# Altium footprint library 3dprinter_shield.PcbLib: 18 footprints (part 1 of 2)
Each footprint in its own frame and in the unit in brackets; x right, y up, seen from the top. Pads: shape width x height; smd on the part's side, far side on the other; paste and mask are expansions set on the pad; w line width, h text height; cw(c..) or ccw(c..) is an arc to the next point about the centre after c.
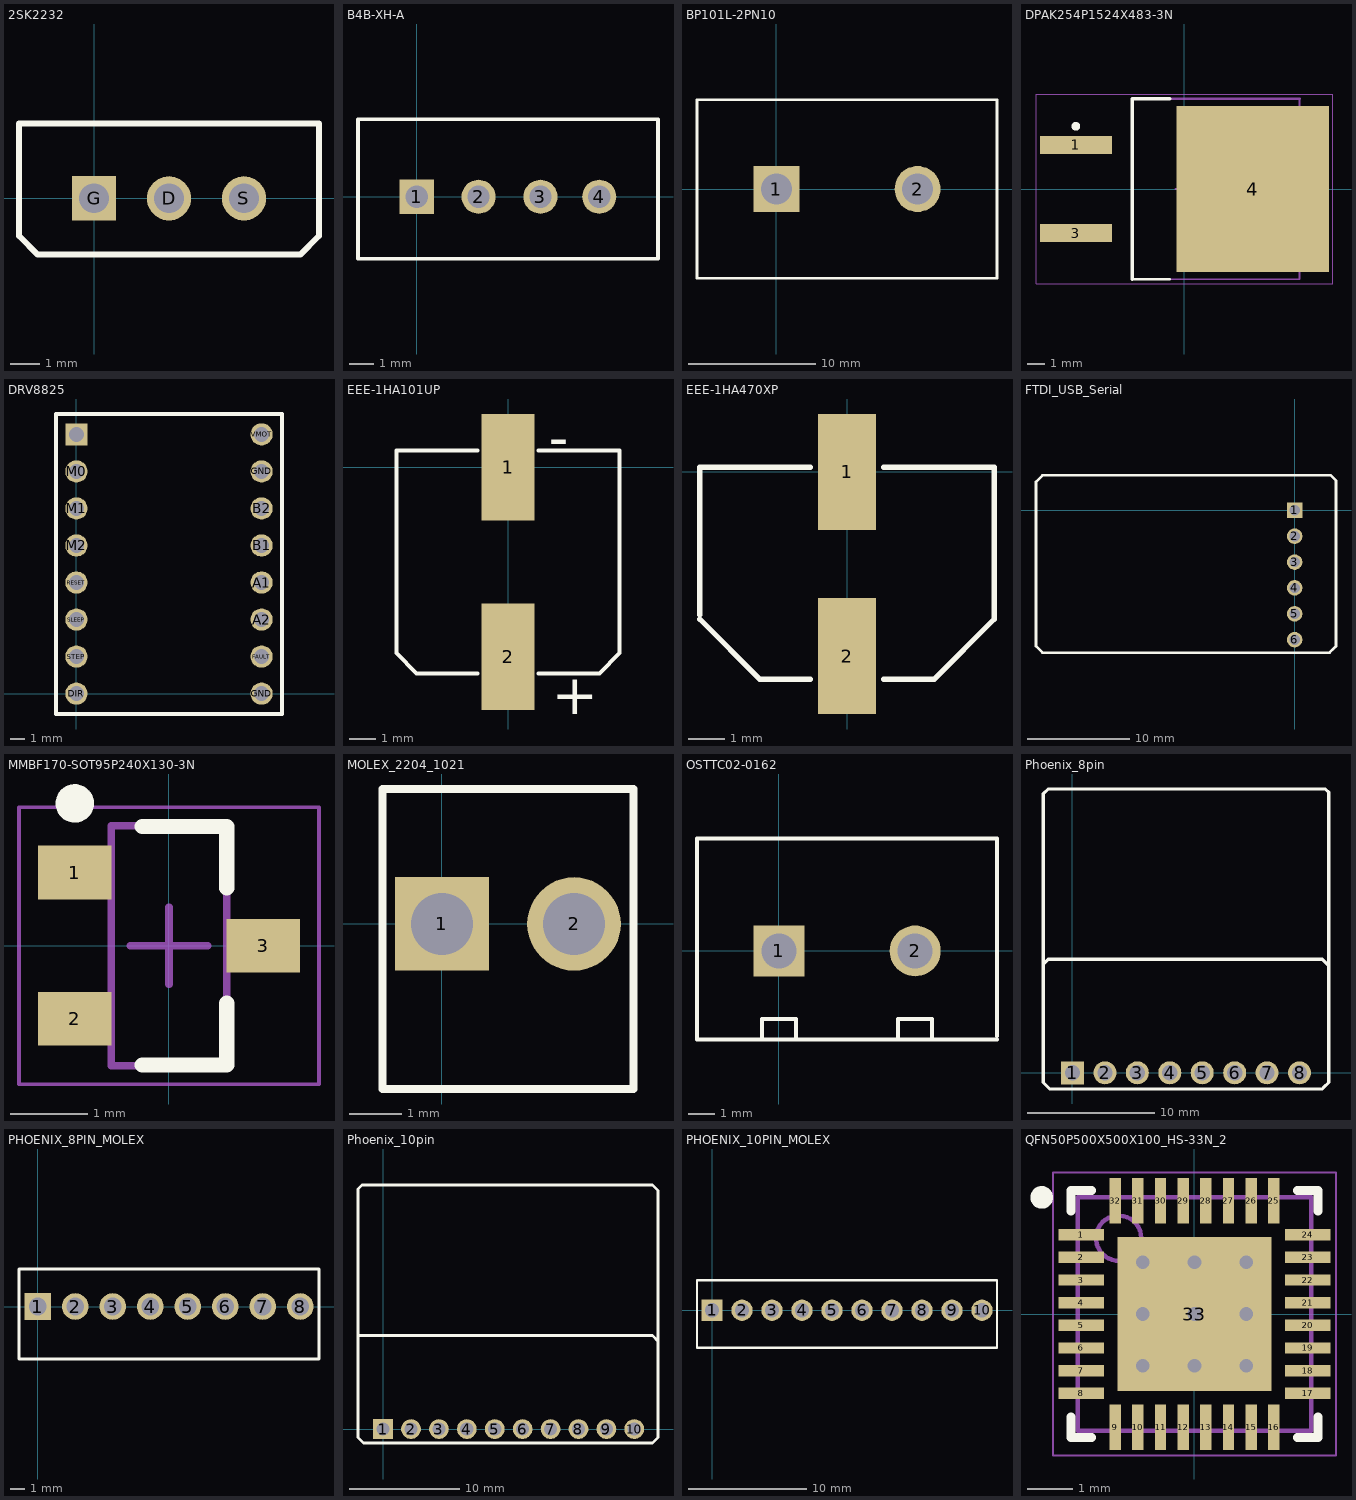
[diagram p0: the footprints below, top view; thin cyan lines are the x and y axes]

## 2SK2232 [mm]
pads (3):
  round 1.5 hole 1: D(2.54,0) S(5.08,0)
  rect 1.5x1.5 hole 1: G(0,0)
Top Overlay:
  lines w0.2: -2.54,-1.27 -2.54,2.54 7.62,2.54 7.62,-1.27 6.985,-1.905 -1.905,-1.905 -2.54,-1.27

## B4B-XH-A [mm]
pads (4):
  rect 1.4x1.4 hole 0.905: 1(0,0)
  round 1.4 hole 0.905: 2(2.54,0) 3(5.08,0) 4(7.493,0)
Top Overlay:
  lines w0.15: -2.413,-2.54 9.906,-2.54 9.906,0 9.906,3.175 -2.413,3.175 -2.413,0 -2.413,-2.54

## BP101L-2PN10 [mm]
pads (2):
  rect 3.6x3.6 hole 2.4: 1(0,0)
  round 3.6 hole 2.4: 2(11.049,0)
Top Overlay:
  lines w0.2: -6.223,-6.985 17.272,-6.985 17.272,6.985 -6.223,6.985 -6.223,-6.985

## DPAK254P1524X483-3N [mm] "D2-PAK, 3-Pads, Body 7.93x8.57mm (max), IPC Medium Density"
height 4.83
pads (3):
  rect 4.15x1.05 smd: 1(-6.25,2.54) 3(-6.25,-2.54)
  rect 8.8x9.6 smd: 4(3.95,0)
Top Overlay:
  circle w0.25: c-6.25,3.615 r0.125
  lines w0.15: -3,-5.2 -0.85,-5.2
  lines w0.2: -3,-5.2 -3,5.2 -0.85,5.2
Mechanical 13:
  lines w0.1: -3,-5.2 6.65,-5.2 6.65,5.2
  lines w0.15: -3,-5.2 -3,5.2 6.65,5.2
Mechanical 15:
  lines w0.05: -8.55,-5.45 -8.55,5.45 8.55,5.45 8.55,-5.45 -8.55,-5.45
  lines w0.1: -0.5,0 0.5,0 ; 0,-0.5 0,0.5
3D body: height 4.83, standoff 0.33, extent -3,-5.2 6.65,5.2

## DRV8825 [mil]
pads (16):
  round 60 hole 40: A1(500,300) A2(500,200) B1(500,400) B2(500,500) DIR(0,0) FAULT(500,100) GND(500,0) GND(500,600) M0(0,600) M1(0,500) M2(0,400) RESET(0,300) SLEEP(0,200) STEP(0,100) VMOT(500,700)
  rect 60x60 hole 40: ENABLE(0,700)
Top Overlay:
  lines w10: -55,-55 555,-55 555,755 -55,755 -55,-55

## EEE-1HA101UP [mm]
pads (2):
  rect 2x4 smd: 1(0,0) 2(0,-7.112)
Top Overlay:
  lines w0.15: -1.143,-7.747 -3.429,-7.747 -4.191,-6.985 -4.191,0.635 -1.143,0.635 ; 1.143,-7.747 3.429,-7.747 4.191,-6.985 4.191,0.635 1.143,0.635
  text "+" at 1.651,-9.271 h1.52
  text "-" at 1.524,0.381 h1.52

## EEE-1HA470XP [mm]
pads (2):
  rect 1.6x3.2 smd: 1(0,0) 2(0,-5.08)
Top Overlay:
  lines w0.025: -4.064,-4.064 -4.064,-3.937
  lines w0.15: -4.064,-4.064 -2.413,-5.715 -1.016,-5.715 ; -4.064,-3.937 -4.064,0.127 -2.794,0.127 -1.016,0.127 ; 1.016,-5.715 2.413,-5.715 4.064,-4.064 4.064,0.127 1.016,0.127

## FTDI_USB_Serial [mil]
pads (6):
  rect 60x60 hole 40: 1(0,0)
  round 60 hole 40: 2(0,-100) 3(0,-200) 4(0,-300) 5(0,-400) 6(0,-500)
Top Overlay:
  lines w10: -930,-550 135,-550 148.75,-536.25 156.25,-528.75 160,-525 160,-465 160,115 140,135 -975,135 -1000,110 -1000,-525 -975,-550 -970,-550 75,-550

## MMBF170-SOT95P240X130-3N [mm] "SOT23, 3-Leads, Body 2.92x2.40mm, Pitch 0.95mm, IPC Medium Density"
height 1.3
pads (3):
  rect 0.95x0.7 smd: 1(-1.225,0.95) 2(-1.225,-0.95) 3(1.225,0)
Top Overlay:
  circle w0.25: c-1.225,1.85 r0.125
  lines w0.2: -0.35,-1.55 0.75,-1.55 0.75,-0.75 ; -0.35,1.55 0.75,1.55 0.75,0.75
Mechanical 13:
  lines w0.1: -0.75,-1.56 -0.75,1.56 0.75,1.56 0.75,-1.56 -0.75,-1.56
Mechanical 15:
  lines w0.05: -1.95,-1.8 -1.95,1.8 1.95,1.8 1.95,-1.8 -1.95,-1.8
  lines w0.1: -0.5,0 0.5,0 ; 0,-0.5 0,0.5
3D body: height 1.3, standoff 0.08, extent -0.75,-1.56 0.75,1.56

## MOLEX_2204_1021 [mm]
pads (2):
  rect 1.8x1.8 hole 1.2: 1(0,0)
  round 1.8 hole 1.2: 2(2.54,0)
Top Overlay:
  lines w0.15: -1.143,-3.175 -1.143,2.596 3.683,2.596 3.683,-3.175 -1.143,-3.175

## OSTTC02-0162 [mm]
pads (2):
  rect 1.9x1.9 hole 1.3: 1(0,0)
  round 1.9 hole 1.3: 2(5.08,0)
Top Overlay:
  lines w0.15: -0.635,-3.302 -0.635,-2.54 0.635,-2.54 0.635,-3.302 ; 4.445,-3.302 4.445,-2.54 5.715,-2.54 5.715,-3.175 5.715,-3.302 ; 8.127,-3.302 5.334,-3.302 -3.048,-3.302 -3.048,0 -3.048,1.651 -3.048,4.191 5.207,4.191 8.128,4.191 8.128,-3.175

## Phoenix_8pin [mm]
pads (8):
  rect 1.8x1.8 hole 1.2: 1(0,0)
  round 1.8 hole 1.2: 2(2.54,0) 3(5.08,0) 4(7.62,0) 5(10.16,0) 6(12.7,0) 7(15.24,0) 8(17.78,0)
Top Overlay:
  lines w0.254: -2.286,8.382 -2.286,21.717 -2.286,21.844 -1.905,22.225 19.812,22.225 20.066,21.971 20.066,8.382 ; 20.066,8.382 19.558,8.89 -1.905,8.89 -2.286,8.509 -2.286,6.604 -2.286,0 -2.286,-0.762 -1.778,-1.27 -0.508,-1.27 18.542,-1.27 19.558,-1.27 19.685,-1.143 20.066,-0.762 20.066,1.016 20.066,8.382

## PHOENIX_8PIN_MOLEX [mm]
pads (8):
  rect 1.8x1.8 hole 1.2: 1(0,0)
  round 1.8 hole 1.2: 2(2.54,0) 3(5.08,0) 4(7.62,0) 5(10.16,0) 6(12.7,0) 7(15.24,0) 8(17.78,0)
Top Overlay:
  lines w0.2: -1.27,-3.556 -1.143,-3.556 19.05,-3.556 19.05,2.54 -1.27,2.54 -1.27,1.27 -1.27,-3.556

## Phoenix_10pin [mm]
pads (10):
  rect 1.8x1.8 hole 1.2: 1(0,0)
  round 1.8 hole 1.2: 2(2.54,0) 3(5.08,0) 4(7.62,0) 5(10.16,0) 6(12.7,0) 7(15.24,0) 8(17.78,0) 9(20.32,0) 10(22.86,0)
Top Overlay:
  lines w0.254: -2.286,8.382 -2.286,21.717 -2.286,21.844 -1.905,22.225 24.511,22.225 25.019,21.717 25.019,7.874 ; -2.286,-0.762 -2.286,0 -2.286,6.604 -2.286,8.509 24.511,8.509 25.019,8.001 25.019,0.127 25.019,-0.762 24.511,-1.27 19.812,-1.27 19.558,-1.27 18.542,-1.27 -0.508,-1.27 -1.778,-1.27 -2.286,-0.762

## PHOENIX_10PIN_MOLEX [mm]
pads (10):
  rect 1.8x1.8 hole 1.2: 1(0,0)
  round 1.8 hole 1.2: 2(2.54,0) 3(5.08,0) 4(7.62,0) 5(10.16,0) 6(12.7,0) 7(15.24,0) 8(17.78,0) 9(20.32,0) 10(22.86,0)
Top Overlay:
  lines w0.2: -1.27,-3.175 -1.27,0 -1.27,2.54 24.13,2.54 24.13,-3.175 -1.27,-3.175

## QFN50P500X500X100_HS-33N_2 [mm] "QFN, 32-Leads, Body 5.00x5.00mm, Pitch 0.50mm, Thermal Pad 3.40x3.40mm, IPC Medium Density"
height 1
pads (33):
  rect 1x0.25 smd: 1(-2.5,1.75) 2(-2.5,1.25) 3(-2.5,0.75) 4(-2.5,0.25) 5(-2.5,-0.25) 6(-2.5,-0.75) 7(-2.5,-1.25) 8(-2.5,-1.75) 17(2.5,-1.75) 18(2.5,-1.25) 19(2.5,-0.75) 20(2.5,-0.25) 21(2.5,0.25) 22(2.5,0.75) 23(2.5,1.25) 24(2.5,1.75)
  rect 0.25x1 smd: 9(-1.75,-2.5) 10(-1.25,-2.5) 11(-0.75,-2.5) 12(-0.25,-2.5) 13(0.25,-2.5) 14(0.75,-2.5) 15(1.25,-2.5) 16(1.75,-2.5) 25(1.75,2.5) 26(1.25,2.5) 27(0.75,2.5) 28(0.25,2.5) 29(-0.25,2.5) 30(-0.75,2.5) 31(-1.25,2.5) 32(-1.75,2.5)
  rect 3.4x3.4 smd: 33(0,0)
via -1.143,1.143 diameter 0.6 hole 0.3
via 0,0 diameter 0.6 hole 0.3
via 0,1.143 diameter 0.6 hole 0.3
via -1.143,0 diameter 0.6 hole 0.3
via -1.143,-1.143 diameter 0.6 hole 0.3
via 0,-1.143 diameter 0.6 hole 0.3
via 1.143,-1.143 diameter 0.6 hole 0.3
via 1.143,0 diameter 0.6 hole 0.3
via 1.143,1.143 diameter 0.6 hole 0.3
Top Overlay:
  circle w0.25: c-3.375,2.575 r0.125
  lines w0.2: -2.725,-2.275 -2.725,-2.725 -2.275,-2.725 ; -2.725,2.275 -2.725,2.725 -2.275,2.725 ; 2.275,-2.725 2.725,-2.725 2.725,-2.275 ; 2.275,2.725 2.725,2.725 2.725,2.275
Mechanical 13:
  circle w0.1: c-1.675,1.675 r0.5
  lines w0.1: -2.575,-2.575 -2.575,2.575 2.575,2.575 2.575,-2.575 -2.575,-2.575
Mechanical 15:
  lines w0.05: -3.125,-3.125 -3.125,3.125 3.125,3.125 3.125,-3.125 -3.125,-3.125
  lines w0.1: -0.5,0 0.5,0 ; 0,-0.5 0,0.5
3D body: height 1, standoff 0.01, extent -2.575,-2.575 2.575,2.575